# Altium footprint library PcbLib1.PcbLib: 3 footprints
Each footprint in its own frame and in the unit in brackets; x right, y up, seen from the top. Pads: shape width x height; smd on the part's side, far side on the other; paste and mask are expansions set on the pad; w line width, h text height; cw(c..) or ccw(c..) is an arc to the next point about the centre after c.
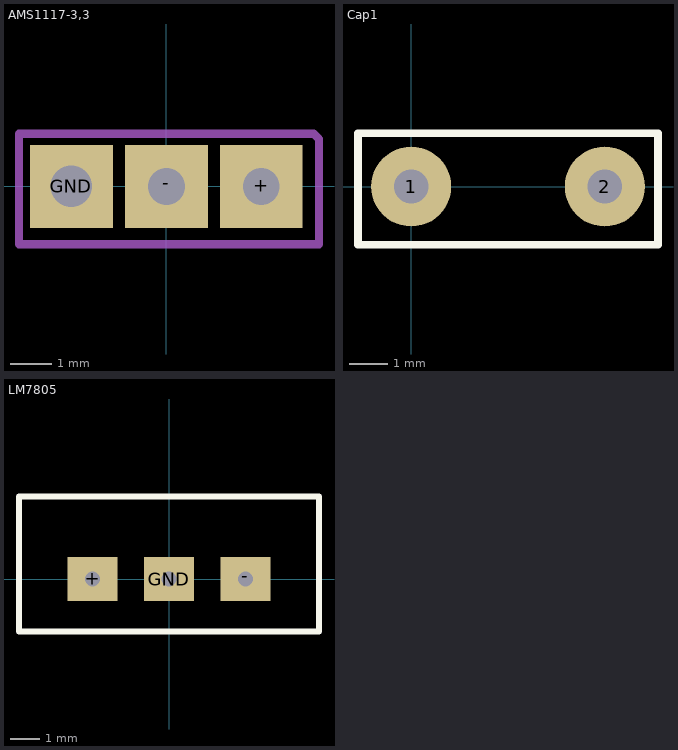
[diagram p0: the footprints below, top view; thin cyan lines are the x and y axes]

## AMS1117-3,3 [mm]
pads (3):
  rect 2x2 hole 0.89 square: +(2.29,0) -(0,0)
  rect 2x2 hole 1 square: GND(-2.29,0)
Mechanical 1:
  lines w0.2: -3.556,-1.397 3.429,-1.397 3.683,-1.397 3.683,1.143 3.556,1.27 2.159,1.27 -3.556,1.27 -3.556,-1.397
3D body "AMS1117-3.3--3DModel-STEP-56544.STEP": height 6.1, standoff -0.9, extent -3.251,-1.295 3.251,0.508

## Cap1 [mm] "100nF"
pads (2):
  round 2.1 hole 0.9: 1(0,0) 2(5.08,0)
Top Overlay:
  lines w0.2: -1.397,-1.524 6.477,-1.524 6.477,1.397 -1.397,1.397 -1.397,1.143 -1.397,-1.524
3D body "User Library-100n.STEP": height 8.6, standoff -3.6, extent -1.21,-1.23 6.29,1.27

## LM7805 [mm]
pads (3):
  rect 1.7x1.5 hole 0.5 square: +(-2.59,0) -(2.59,0) GND(0,0)
Top Overlay:
  lines w0.2: -5.08,-1.778 5.08,-1.778 5.08,2.794 -5.08,2.794 -5.08,-1.778
3D body "LM7805--3DModel-STEP-56544.STEP": height 22.34, standoff -7, extent -5.08,-1.714 5.08,2.858